# Altium integrated library micro-intel.IntLib: 81 symbols (part 2 of 2)
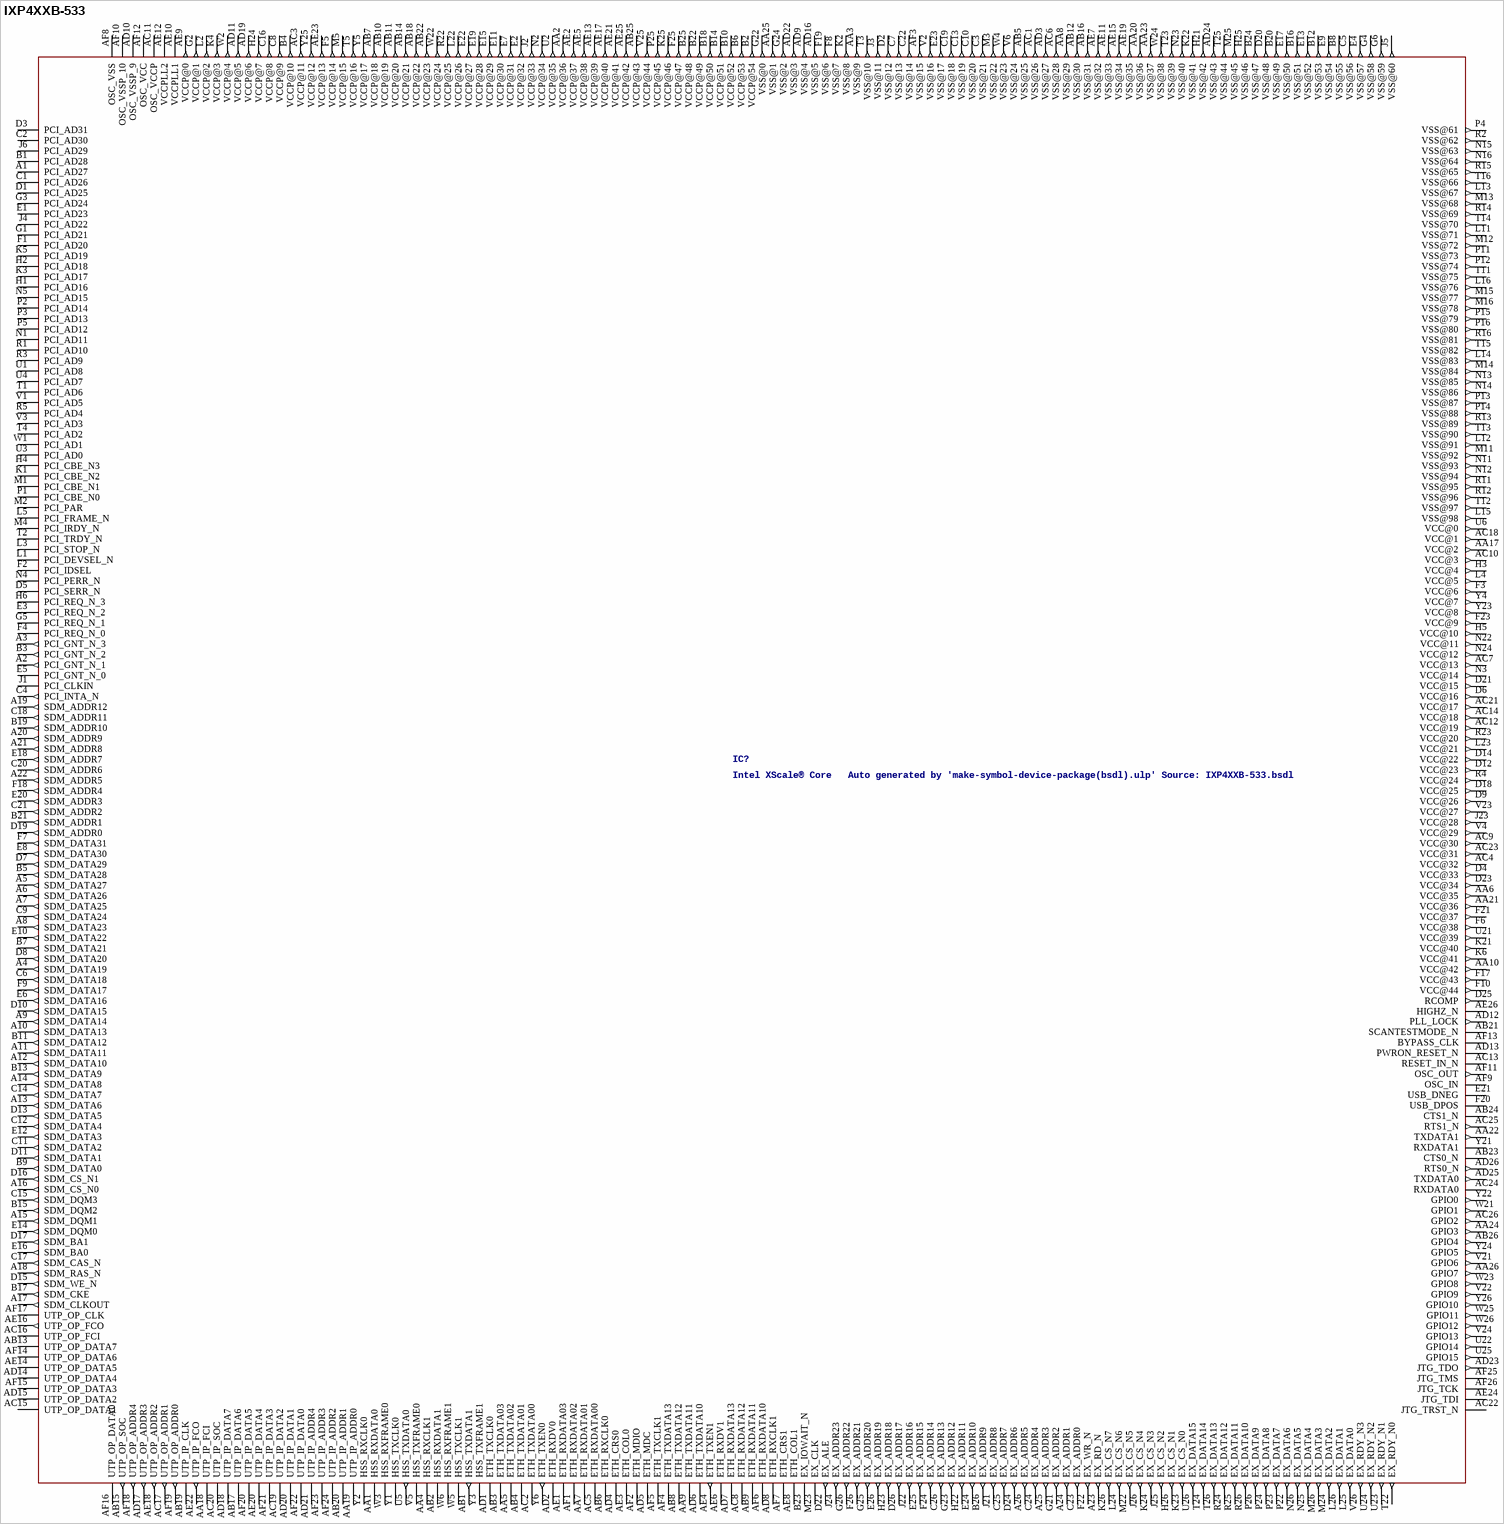
[diagram p14: symbol IXP4XXB-533]

## IXP4XXB-533
designator IC?, comment Intel XScale® Core   Auto generated by 'make-symbol-device-package(bsdl).ulp' Source: IXP4XXB-533.bsdl
OC_FARNELL: unknown; OC_NEWARK: unknown
footprint PBGA492
pins: A1 PCI_AD27, A2 PCI_GNT_N_1 (out), A3 PCI_GNT_N_3 (out), A4 SDM_DATA19 (out), A5 SDM_DATA27 (out), A6 SDM_DATA26 (out), A7 SDM_DATA25 (out), A8 SDM_DATA23 (out), A9 SDM_DATA14 (out), A10 SDM_DATA13 (out), A11 SDM_DATA11 (out), A12 SDM_DATA10 (out), A13 SDM_DATA6 (out), A14 SDM_DATA8 (out), A15 SDM_DQM1 (out), A16 SDM_CS_N0 (out), A17 SDM_CLKOUT (out), A18 SDM_RAS_N (out), A19 SDM_ADDR12 (out), A20 SDM_ADDR9 (out), A21 SDM_ADDR8 (out), A22 SDM_ADDR5 (out), A23 EX_RD_N (out), A24 EX_ADDR1 (out), A25 EX_ADDR3 (out), A26 EX_ADDR5 (out), AA1 HSS_RXDATA0, AA2 VCCP@36 (out), AA3 VSS@9 (out), AA4 HSS_RXCLK1, AA5 ETH_TXDATA02, AA6 VCC@35 (out), AA7 ETH_RXDATA01, AA8 VSS@29 (out), AA9 ETH_TXDATA11, AA10 VCC@42 (out), AA17 VCC@2 (out), AA18 UTP_IP_FCI, AA19 UTP_IP_ADDR0, AA20 VSS@36 (out), AA21 VCC@36 (out), AA22 TXDATA1 (out), AA23 VSS@37 (out), AA24 GPIO3 (out), AA25 VSS@1 (out), AA26 GPIO7 (out), AB1 HSS_TXDATA1 (out), AB2 HSS_RXDATA1, AB3 ETH_TXDATA03, AB4 ETH_TXDATA01, AB5 VSS@25 (out), AB6 ETH_RXCLK0, AB7 VCCP@18 (out), AB8 ETH_TXDATA12, AB9 ETH_RXDATA11, AB10 VCCP@19 (out), AB11 VCCP@20 (out), AB12 VSS@30 (out), AB13 UTP_OP_DATA7, AB14 VCCP@21 (out), AB15 UTP_OP_SOC (out), AB16 VSS@31 (out), AB17 UTP_IP_DATA6, AB18 VCCP@22 (out), AB19 UTP_IP_CLK, AB20 UTP_IP_ADDR1, AB21 SCANTESTMODE_N, AB22 VCCP@23 (out), AB23 CTS0_N, AB24 CTS1_N, AB25 VCCP@43 (out), AB26 GPIO4 (out), AC1 VSS@26 (out), AC2 ETH_TXDATA00, AC3 VCCP@11 (out), AC4 VCC@32 (out), AC5 ETH_RXDATA00, AC6 VSS@28 (out), AC7 VCC@13 (out), AC8 ETH_RXDATA12, AC9 VCC@30 (out), AC10 VCC@3 (out), AC11 OSC_VCCP (power), AC12 VCC@19 (out), AC13 RESET_IN_N, AC14 VCC@18 (out), AC15 UTP_OP_DATA1, AC16 UTP_OP_FCI, AC17 UTP_OP_ADDR1 (out), AC18 VCC@1 (out), AC19 UTP_IP_DATA2, AC20 UTP_IP_SOC, AC21 VCC@17 (out), AC22 JTG_TRST_N, AC23 VCC@31 (out), AC24 RXDATA0, AC25 RTS1_N (out), AC26 GPIO2 (out), AD1 ETH_TXCLK0, AD2 ETH_RXDV0, AD3 VSS@27 (out), AD4 ETH_CRS0, AD5 ETH_MDC, AD6 ETH_TXDATA10, AD7 ETH_RXDATA13, AD8 ETH_RXCLK1, AD9 VSS@4 (out), AD10 OSC_VSSP_9 (power), AD11 VCCP@5 (out), AD12 PLL_LOCK (out), AD13 PWRON_RESET_N, AD14 UTP_OP_DATA4, AD15 UTP_OP_DATA2, AD16 VSS@5 (out), AD17 UTP_OP_ADDR3 (out), AD18 UTP_IP_DATA7, AD19 VCCP@6 (out), AD20 UTP_IP_DATA1, AD21 UTP_IP_ADDR4, AD22 VSS@3 (out), AD23 JTG_TDO (out), AD24 VSS@43 (out), AD25 TXDATA0 (out), AD26 RTS0_N (out), AE1 ETH_RXDATA03, AE2 VCCP@37 (out), AE3 ETH_COL0, AE4 ETH_TXEN1 (out), AE5 VCCP@38 (out), AE6 ETH_RXDV1, AE7 VSS@32 (out), AE8 ETH_COL1, AE9 VCCP@0 (out), AE10 VCCPLL1 (power), AE11 VSS@33 (out), AE12 VCCPLL2 (power), AE13 VCCP@39 (out), AE14 UTP_OP_DATA5, AE15 VSS@34 (out), AE16 UTP_OP_FCO (out), AE17 VCCP@40 (out), AE18 UTP_OP_ADDR2 (out), AE19 VSS@35 (out), AE20 UTP_IP_DATA4, AE21 VCCP@41 (out), AE22 UTP_IP_FCO (out), AE23 VCCP@13 (out), AE24 JTG_TDI, AE25 VCCP@42 (out), AE26 HIGHZ_N, AF1 ETH_RXDATA02, AF2 ETH_MDIO, AF3 VSS@15 (out), AF4 ETH_TXDATA13, AF5 ETH_TXCLK1, AF6 ETH_RXDATA10, AF7 ETH_CRS1, AF8 OSC_VSS (power), AF9 OSC_IN, AF10 OSC_VSSP_10 (power), AF11 OSC_OUT (out), AF12 OSC_VCC (power), AF13 BYPASS_CLK, AF14 UTP_OP_DATA6, AF15 UTP_OP_DATA3, AF16 UTP_OP_DATA0, AF17 UTP_OP_CLK, AF18 UTP_OP_ADDR4 (out), AF19 UTP_OP_ADDR0 (out), AF20 UTP_IP_DATA5, AF21 UTP_IP_DATA3, AF22 UTP_IP_DATA0, AF23 UTP_IP_ADDR3, AF24 UTP_IP_ADDR2, AF25 JTG_TMS, AF26 JTG_TCK, B1 PCI_AD28, B2 VCCP@54 (out), B3 PCI_GNT_N_2 (out), B4 VCCP@10 (out), B5 SDM_DATA28 (out), B6 VCCP@53 (out), B7 SDM_DATA21 (out), B8 VSS@55 (out), B9 SDM_DATA0 (out), B10 VCCP@52 (out), B11 SDM_DATA12 (out), B12 VSS@53 (out), B13 SDM_DATA9 (out), B14 VCCP@51 (out), B15 SDM_DQM2 (out), B16 VSS@51 (out), B17 SDM_CKE (out), B18 VCCP@50 (out), B19 SDM_ADDR10 (out), B20 VSS@49 (out), B21 SDM_ADDR1 (out), B22 VCCP@49 (out), B23 EX_IOWAIT_N, B24 VSS@47 (out), B25 VCCP@48 (out), B26 EX_ADDR9 (out), C1 PCI_AD26, C2 PCI_AD30, C3 VSS@21 (out), C4 PCI_INTA_N (out), C5 VSS@56 (out), C6 SDM_DATA18 (out), C7 VSS@13 (out), C8 VCCP@9 (out), C9 SDM_DATA24 (out), C10 VSS@20 (out), C11 SDM_DATA2 (out), C12 SDM_DATA4 (out), C13 VSS@19 (out), C14 SDM_DATA7 (out), C15 SDM_DQM3 (out), C16 VCCP@8 (out), C17 SDM_CAS_N (out), C18 SDM_ADDR11 (out), C19 VSS@18 (out), C20 SDM_ADDR6 (out), C21 SDM_ADDR2 (out), C22 VSS@14 (out), C23 EX_ADDR0 (out), C24 EX_ADDR4 (out), C25 EX_ADDR7 (out), C26 EX_ADDR13 (out), D1 PCI_AD25, D2 VSS@12 (out), D3 PCI_AD31, D4 VCC@33 (out), D5 PCI_SERR_N, D6 VCC@16 (out), D7 SDM_DATA29 (out), D8 SDM_DATA20 (out), D9 VCC@26 (out), D10 SDM_DATA15 (out), D11 SDM_DATA1 (out), D12 VCC@23 (out), D13 SDM_DATA5 (out), D14 VCC@22 (out), D15 SDM_WE_N (out), D16 SDM_CS_N1 (out), D17 SDM_BA1 (out), D18 VCC@25 (out), D19 SDM_ADDR0 (out), D20 VSS@48 (out), D21 VCC@15 (out), D22 EX_ALE (out), D23 VCC@34 (out), D24 EX_ADDR6 (out), D25 RCOMP (out), D26 EX_ADDR17 (out), E1 PCI_AD23, E2 VCCP@32 (out), E3 PCI_REQ_N_2, E4 VSS@57 (out), E5 PCI_GNT_N_0, E6 SDM_DATA16 (out), E7 VCCP@31 (out), E8 SDM_DATA30 (out), E9 VSS@54 (out), E10 SDM_DATA22 (out), E11 VCCP@30 (out), E12 SDM_DATA3 (out), E13 VSS@52 (out), E14 SDM_DQM0 (out), E15 VCCP@29 (out), E16 SDM_BA0 (out), E17 VSS@50 (out), E18 SDM_ADDR7 (out), E19 VCCP@28 (out), E20 SDM_ADDR3 (out), E21 USB_DNEG, E22 VCCP@27 (out), E23 VSS@17 (out), E24 EX_ADDR10 (out), E25 EX_ADDR15 (out), E26 EX_ADDR19 (out), F1 PCI_AD20, F2 PCI_IDSEL, F3 VCC@6 (out), F4 PCI_REQ_N_0, F5 VCCP@14 (out), F6 VCC@38 (out), F7 SDM_DATA31 (out), F8 VSS@7 (out), F9 SDM_DATA17 (out), F10 VCC@44 (out), F17 VCC@43 (out), F18 SDM_ADDR4 (out), F19 VSS@6 (out), F20 USB_DPOS, F21 VCC@37 (out), F22 EX_WR_N (out), F23 VCC@9 (out), F24 EX_ADDR14 (out), F25 VCCP@47 (out), F26 EX_ADDR21 (out), G1 PCI_AD21, G2 VCCP@1 (out), G3 PCI_AD24, G4 VSS@58 (out), G5 PCI_REQ_N_1, G6 VSS@59 (out), G21 EX_ADDR2 (out), G22 VSS@0 (out), G23 EX_ADDR12 (out), G24 VSS@2 (out), G25 EX_ADDR20 (out), G26 EX_ADDR22 (out), H1 PCI_AD16, H2 PCI_AD18, H3 VCC@4 (out), H4 PCI_CBE_N3, H5 VCC@10 (out), H6 PCI_REQ_N_3, H21 VSS@42 (out), H22 EX_ADDR11 (out), H23 EX_ADDR18 (out), H24 VCCP@7 (out), H25 VSS@46 (out), H26 EX_CS_N1 (out), J1 PCI_CLKIN, J2 VCCP@33 (out), J3 VSS@11 (out), J4 PCI_AD22, J5 VSS@60 (out), J6 PCI_AD29, J21 EX_ADDR8 (out), J22 EX_ADDR16 (out), J23 VCC@28 (out), J24 EX_ADDR23 (out), J25 EX_CS_N2 (out), J26 EX_CS_N4 (out), K1 PCI_CBE_N2, K2 VSS@8 (out), K3 PCI_AD17, K4 VCCP@3 (out), K5 PCI_AD19, K6 VCC@41 (out), K21 VCC@40 (out), K22 VSS@41 (out), K23 EX_CS_N0 (out), K24 EX_CS_N3 (out), K25 VCCP@46 (out), K26 EX_CS_N7 (out), L1 PCI_DEVSEL_N, L2 VCCP@2 (out), L3 PCI_STOP_N, L4 VCC@5 (out), L5 PCI_FRAME_N, L11 VSS@71 (out), L12 VSS@91 (out), L13 VSS@67 (out), L14 VSS@83 (out), L15 VSS@98 (out), L16 VSS@76 (out), L22 VCCP@26 (out), L23 VCC@21 (out), L24 EX_CS_N6 (out), L25 EX_DATA0 (out), L26 EX_DATA1 (out), M1 PCI_CBE_N1, M2 PCI_PAR, M3 VSS@22 (out), M4 PCI_IRDY_N, M5 VCCP@15 (out), M11 VSS@92 (out), M12 VSS@72 (out), M13 VSS@68 (out), M14 VSS@84 (out), M15 VSS@77 (out), M16 VSS@78 (out), M22 EX_CS_N5 (out), M23 EX_CLK, M24 EX_DATA2 (out), M25 VSS@45 (out), M26 EX_DATA3 (out), N1 PCI_AD11, N2 VCCP@34 (out), N3 VCC@14 (out), N4 PCI_PERR_N, N5 PCI_AD15, N11 VSS@93 (out), N12 VSS@94 (out), N13 VSS@85 (out), N14 VSS@86 (out), N15 VSS@63 (out), N16 VSS@64 (out), N22 VCC@11 (out), N23 VSS@40 (out), N24 VCC@12 (out), N25 EX_DATA4 (out), N26 EX_DATA5 (out), P1 PCI_CBE_N0, P2 PCI_AD14, P3 PCI_AD13, P4 VSS@61 (out), P5 PCI_AD12, P11 VSS@73 (out), P12 VSS@74 (out), P13 VSS@87 (out), P14 VSS@88 (out), P15 VSS@79 (out), P16 VSS@80 (out), P22 EX_DATA6 (out), P23 EX_DATA7 (out), P24 EX_DATA8 (out), P25 VCCP@45 (out), P26 EX_DATA9 (out), R1 PCI_AD10, R2 VSS@62 (out), R3 PCI_AD9, R4 VCC@24 (out), R5 PCI_AD4, R11 VSS@95 (out), R12 VSS@96 (out), R13 VSS@89 (out), R14 VSS@69 (out), R15 VSS@65 (out), R16 VSS@81 (out), R22 VCCP@25 (out), R23 VCC@20 (out), R24 EX_DATA12 (out), R25 EX_DATA11 (out), R26 EX_DATA10 (out), T1 PCI_AD6, T2 PCI_TRDY_N, T3 VSS@10 (out), T4 PCI_AD2, T5 VCCP@16 (out), T11 VSS@75 (out), T12 VSS@97 (out), T13 VSS@90 (out), T14 VSS@70 (out), T15 VSS@82 (out), T16 VSS@66 (out), T22 EX_RDY_N0 (out), T23 VSS@39 (out), T24 EX_DATA14 (out), T25 VSS@44 (out), T26 EX_DATA13 (out), U1 PCI_AD8, U2 VCCP@35 (out), U3 PCI_AD0, U4 PCI_AD7, U5 HSS_TXDATA0 (out), U6 VCC@0 (out), U21 VCC@39 (out), U22 GPIO14 (out), U23 EX_RDY_N1 (out), U24 EX_RDY_N2 (out), U25 GPIO15 (out), U26 EX_DATA15 (out), V1 PCI_AD5, V2 VSS@16 (out), V3 PCI_AD3, V4 VCC@29 (out), V5 HSS_TXFRAME0, V6 VSS@24 (out), V21 GPIO6 (out), V22 GPIO9 (out), V23 VCC@27 (out), V24 GPIO13 (out), V25 VCCP@44 (out), V26 EX_RDY_N3 (out), W1 PCI_AD1, W2 VCCP@4 (out), W3 HSS_RXFRAME0, W4 VSS@23 (out), W5 HSS_TXCLK1, W6 HSS_RXFRAME1, W21 GPIO1 (out), W22 VCCP@24 (out), W23 GPIO8 (out), W24 VSS@38 (out), W25 GPIO11 (out), W26 GPIO12 (out), Y1 HSS_TXCLK0, Y2 HSS_RXCLK0, Y3 HSS_TXFRAME1, Y4 VCC@7 (out), Y5 VCCP@17 (out), Y6 ETH_TXEN0 (out), Y21 RXDATA1, Y22 GPIO0 (out), Y23 VCC@8 (out), Y24 GPIO5 (out), Y25 VCCP@12 (out), Y26 GPIO10 (out)

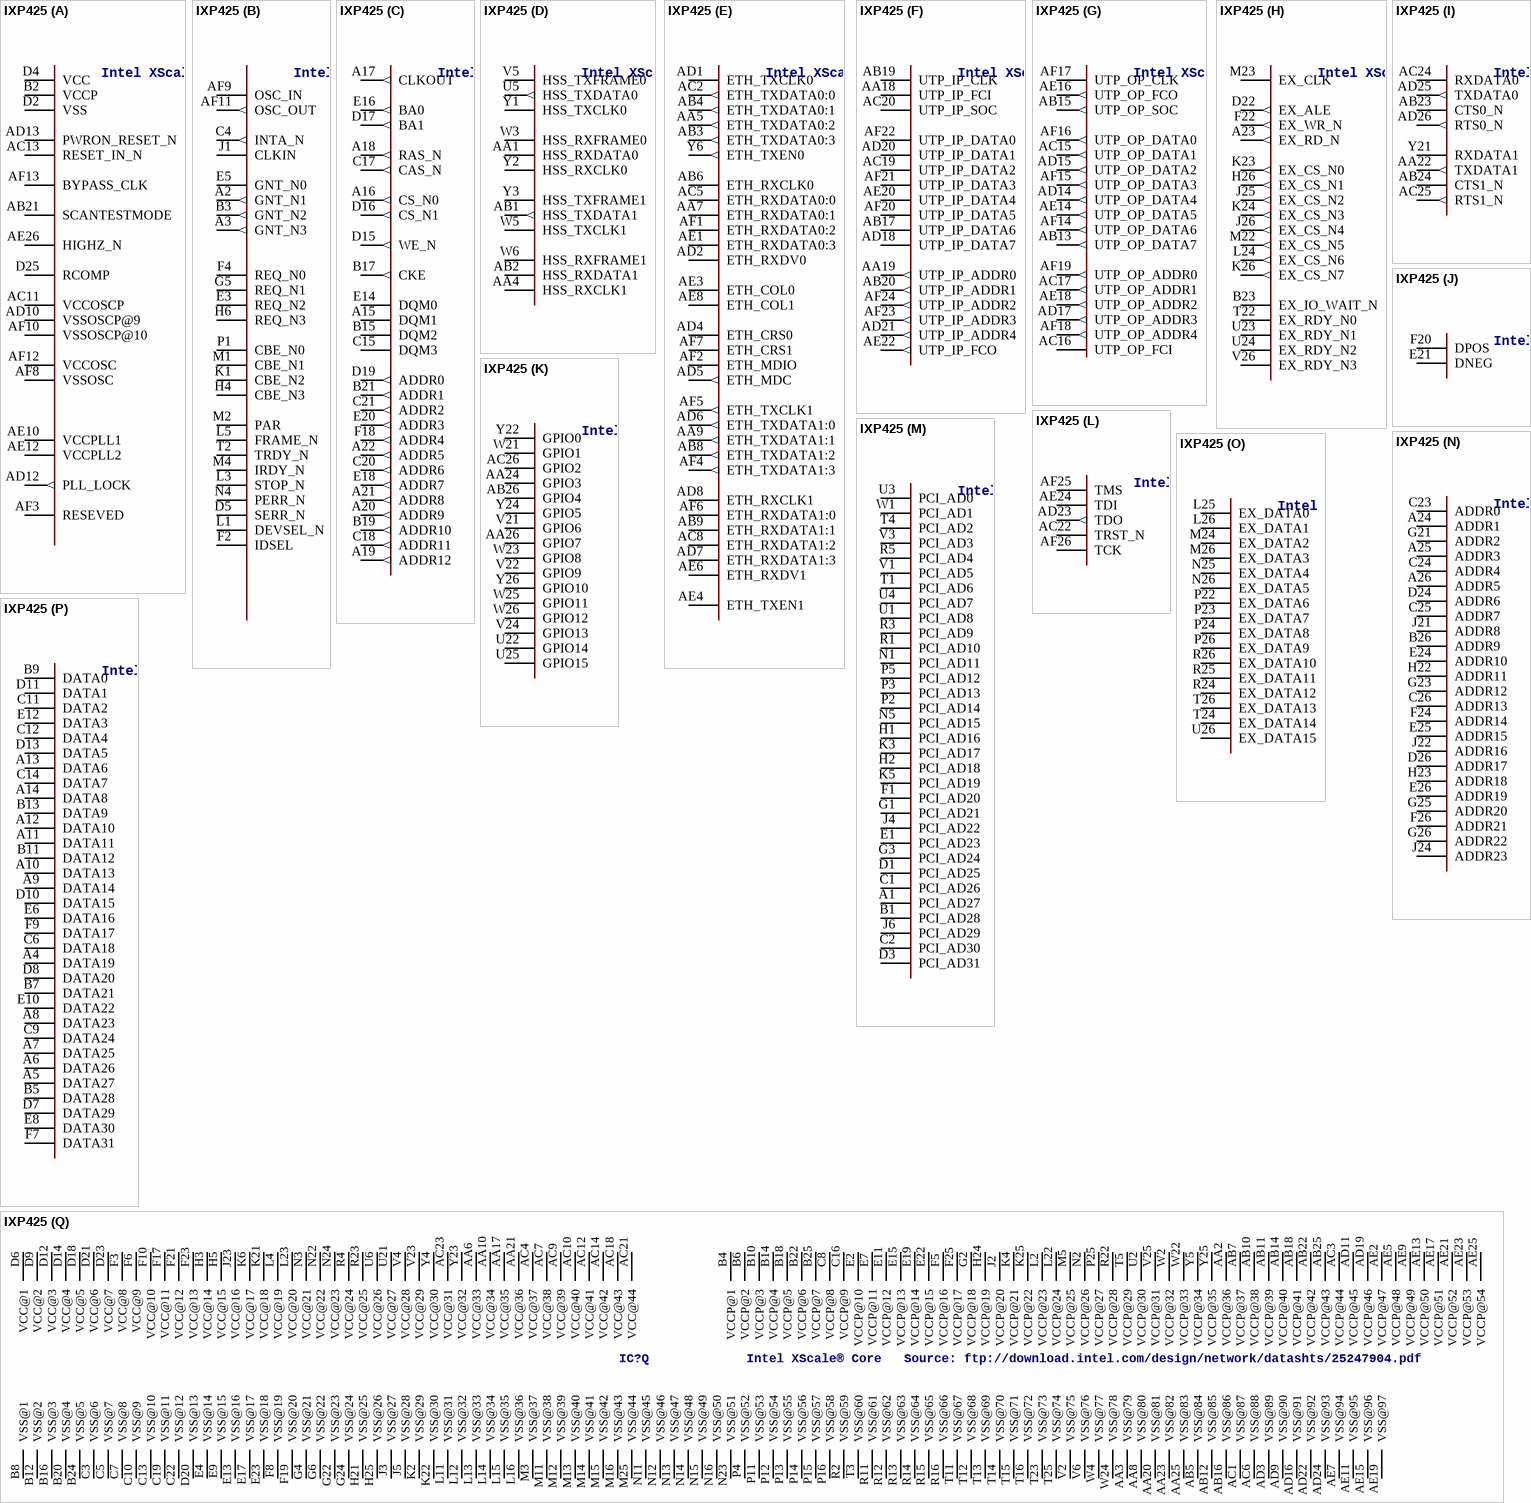
[diagram p12: symbol IXP425]

## IXP425
designator IC?, comment Intel XScale® Core   Source: ftp://download.intel.com/design/network/datashts/25247904.pdf
OC_FARNELL: unknown; OC_NEWARK: unknown
footprint PBGA492
part A pins: AB21 SCANTESTMODE, AC11 VCCOSCP (power), AC13 RESET_IN_N, AD10 VSSOSCP@9 (power), AD12 PLL_LOCK (out), AD13 PWRON_RESET_N, AE10 VCCPLL1 (power), AE12 VCCPLL2 (power), AE26 HIGHZ_N, AF3 RESEVED, AF8 VSSOSC (power), AF10 VSSOSCP@10 (power), AF12 VCCOSC (power), AF13 BYPASS_CLK, B2 VCCP (power), D2 VSS (power), D4 VCC (power), D25 RCOMP
part B pins: A2 GNT_N1 (out), A3 GNT_N3 (out), AF9 OSC_IN, AF11 OSC_OUT (out), B3 GNT_N2 (out), C4 INTA_N (out), D5 SERR_N, E3 REQ_N2, E5 GNT_N0, F2 IDSEL, F4 REQ_N0, G5 REQ_N1, H4 CBE_N3, H6 REQ_N3, J1 CLKIN, K1 CBE_N2, L1 DEVSEL_N, L3 STOP_N, L5 FRAME_N, M1 CBE_N1, M2 PAR, M4 IRDY_N, N4 PERR_N, P1 CBE_N0, T2 TRDY_N
part C pins: A15 DQM1, A16 CS_N0 (out), A17 CLKOUT (out), A18 RAS_N (out), A19 ADDR12 (out), A20 ADDR9 (out), A21 ADDR8 (out), A22 ADDR5 (out), B15 DQM2, B17 CKE (out), B19 ADDR10 (out), B21 ADDR1 (out), C15 DQM3, C17 CAS_N (out), C18 ADDR11 (out), C20 ADDR6 (out), C21 ADDR2 (out), D15 WE_N (out), D16 CS_N1 (out), D17 BA1 (out), D19 ADDR0 (out), E14 DQM0, E16 BA0 (out), E18 ADDR7 (out), E20 ADDR3 (out), F18 ADDR4 (out)
part D pins: AA1 HSS_RXDATA0, AA4 HSS_RXCLK1, AB1 HSS_TXDATA1 (out), AB2 HSS_RXDATA1, U5 HSS_TXDATA0 (out), V5 HSS_TXFRAME0, W3 HSS_RXFRAME0, W5 HSS_TXCLK1, W6 HSS_RXFRAME1, Y1 HSS_TXCLK0, Y2 HSS_RXCLK0, Y3 HSS_TXFRAME1
part E pins: AA5 ETH_TXDATA0:2 (out), AA7 ETH_RXDATA0:1, AA9 ETH_TXDATA1:1 (out), AB3 ETH_TXDATA0:3 (out), AB4 ETH_TXDATA0:1 (out), AB6 ETH_RXCLK0, AB8 ETH_TXDATA1:2 (out), AB9 ETH_RXDATA1:1, AC2 ETH_TXDATA0:0 (out), AC5 ETH_RXDATA0:0, AC8 ETH_RXDATA1:2, AD1 ETH_TXCLK0, AD2 ETH_RXDV0, AD4 ETH_CRS0, AD5 ETH_MDC (out), AD6 ETH_TXDATA1:0 (out), AD7 ETH_RXDATA1:3, AD8 ETH_RXCLK1, AE1 ETH_RXDATA0:3, AE3 ETH_COL0, AE4 ETH_TXEN1, AE6 ETH_RXDV1, AE8 ETH_COL1, AF1 ETH_RXDATA0:2, AF2 ETH_MDIO, AF4 ETH_TXDATA1:3 (out), AF5 ETH_TXCLK1 (out), AF6 ETH_RXDATA1:0, AF7 ETH_CRS1, Y6 ETH_TXEN0 (out)
part F pins: AA18 UTP_IP_FCI, AA19 UTP_IP_ADDR0 (out), AB17 UTP_IP_DATA6, AB19 UTP_IP_CLK, AB20 UTP_IP_ADDR1 (out), AC19 UTP_IP_DATA2, AC20 UTP_IP_SOC, AD18 UTP_IP_DATA7, AD20 UTP_IP_DATA1, AD21 UTP_IP_ADDR4 (out), AE20 UTP_IP_DATA4, AE22 UTP_IP_FCO (out), AF20 UTP_IP_DATA5, AF21 UTP_IP_DATA3, AF22 UTP_IP_DATA0, AF23 UTP_IP_ADDR3 (out), AF24 UTP_IP_ADDR2 (out)
part G pins: AB13 UTP_OP_DATA7 (out), AB15 UTP_OP_SOC (out), AC15 UTP_OP_DATA1 (out), AC16 UTP_OP_FCI, AC17 UTP_OP_ADDR1 (out), AD14 UTP_OP_DATA4 (out), AD15 UTP_OP_DATA2 (out), AD17 UTP_OP_ADDR3 (out), AE14 UTP_OP_DATA5 (out), AE16 UTP_OP_FCO (out), AE18 UTP_OP_ADDR2 (out), AF14 UTP_OP_DATA6 (out), AF15 UTP_OP_DATA3 (out), AF16 UTP_OP_DATA0 (out), AF17 UTP_OP_CLK, AF18 UTP_OP_ADDR4 (out), AF19 UTP_OP_ADDR0 (out)
part H pins: A23 EX_RD_N (out), B23 EX_IO_WAIT_N, D22 EX_ALE (out), F22 EX_WR_N (out), H26 EX_CS_N1 (out), J25 EX_CS_N2 (out), J26 EX_CS_N4 (out), K23 EX_CS_N0 (out), K24 EX_CS_N3 (out), K26 EX_CS_N7 (out), L24 EX_CS_N6 (out), M22 EX_CS_N5 (out), M23 EX_CLK, T22 EX_RDY_N0, U23 EX_RDY_N1, U24 EX_RDY_N2, V26 EX_RDY_N3
part I pins: AA22 TXDATA1 (out), AB23 CTS0_N, AB24 CTS1_N, AC24 RXDATA0, AC25 RTS1_N (out), AD25 TXDATA0 (out), AD26 RTS0_N (out), Y21 RXDATA1
part J pins: E21 DNEG, F20 DPOS
part K pins: AA24 GPIO3, AA26 GPIO7, AB26 GPIO4, AC26 GPIO2, U22 GPIO14, U25 GPIO15, V21 GPIO6, V22 GPIO9, V24 GPIO13, W21 GPIO1, W23 GPIO8, W25 GPIO11, W26 GPIO12, Y22 GPIO0, Y24 GPIO5, Y26 GPIO10
part L pins: AC22 TRST_N, AD23 TDO (out), AE24 TDI, AF25 TMS, AF26 TCK
part M pins: A1 PCI_AD27, B1 PCI_AD28, C1 PCI_AD26, C2 PCI_AD30, D1 PCI_AD25, D3 PCI_AD31, E1 PCI_AD23, F1 PCI_AD20, G1 PCI_AD21, G3 PCI_AD24, H1 PCI_AD16, H2 PCI_AD18, J4 PCI_AD22, J6 PCI_AD29, K3 PCI_AD17, K5 PCI_AD19, N1 PCI_AD11, N5 PCI_AD15, P2 PCI_AD14, P3 PCI_AD13, P5 PCI_AD12, R1 PCI_AD10, R3 PCI_AD9, R5 PCI_AD4, T1 PCI_AD6, T4 PCI_AD2, U1 PCI_AD8, U3 PCI_AD0, U4 PCI_AD7, V1 PCI_AD5, V3 PCI_AD3, W1 PCI_AD1
part N pins: A24 ADDR1, A25 ADDR3, A26 ADDR5, B26 ADDR9, C23 ADDR0, C24 ADDR4, C25 ADDR7, C26 ADDR13, D24 ADDR6, D26 ADDR17, E24 ADDR10, E25 ADDR15, E26 ADDR19, F24 ADDR14, F26 ADDR21, G21 ADDR2, G23 ADDR12, G25 ADDR20, G26 ADDR22, H22 ADDR11, H23 ADDR18, J21 ADDR8, J22 ADDR16, J24 ADDR23
part O pins: L25 EX_DATA0, L26 EX_DATA1, M24 EX_DATA2, M26 EX_DATA3, N25 EX_DATA4, N26 EX_DATA5, P22 EX_DATA6, P23 EX_DATA7, P24 EX_DATA8, P26 EX_DATA9, R24 EX_DATA12, R25 EX_DATA11, R26 EX_DATA10, T24 EX_DATA14, T26 EX_DATA13, U26 EX_DATA15
part P pins: A4 DATA19, A5 DATA27, A6 DATA26, A7 DATA25, A8 DATA23, A9 DATA14, A10 DATA13, A11 DATA11, A12 DATA10, A13 DATA6, A14 DATA8, B5 DATA28, B7 DATA21, B9 DATA0, B11 DATA12, B13 DATA9, C6 DATA18, C9 DATA24, C11 DATA2, C12 DATA4, C14 DATA7, D7 DATA29, D8 DATA20, D10 DATA15, D11 DATA1, D13 DATA5, E6 DATA16, E8 DATA30, E10 DATA22, E12 DATA3, F7 DATA31, F9 DATA17
part Q pins: AA2 VCCP@36 (power), AA3 VSS@79 (power), AA6 VCC@33 (power), AA8 VSS@80 (power), AA10 VCC@34 (power), AA17 VCC@35 (power), AA20 VSS@81 (power), AA21 VCC@36 (power), AA23 VSS@82 (power), AA25 VSS@83 (power), AB5 VSS@84 (power), AB7 VCCP@37 (power), AB10 VCCP@38 (power), AB11 VCCP@39 (power), AB12 VSS@85 (power), AB14 VCCP@40 (power), AB16 VSS@86 (power), AB18 VCCP@41 (power), AB22 VCCP@42 (power), AB25 VCCP@43 (power), AC1 VSS@87 (power), AC3 VCCP@44 (power), AC4 VCC@37 (power), AC6 VSS@88 (power), AC7 VCC@38 (power), AC9 VCC@39 (power), AC10 VCC@40 (power), AC12 VCC@41 (power), AC14 VCC@42 (power), AC18 VCC@43 (power), AC21 VCC@44 (power), AC23 VCC@31 (power), AD3 VSS@89 (power), AD9 VSS@90 (power), AD11 VCCP@45 (power), AD16 VSS@91 (power), AD19 VCCP@46 (power), AD22 VSS@92 (power), AD24 VSS@93 (power), AE2 VCCP@47 (power), AE5 VCCP@48 (power), AE7 VSS@94 (power), AE9 VCCP@49 (power), AE11 VSS@95 (power), AE13 VCCP@50 (power), AE15 VSS@96 (power), AE17 VCCP@51 (power), AE19 VSS@97 (power), AE21 VCCP@52 (power), AE23 VCCP@53 (power), AE25 VCCP@54 (power), B4 VCCP@1 (power), B6 VCCP@2 (power), B8 VSS@1 (power), B10 VCCP@3 (power), B12 VSS@2 (power), B14 VCCP@4 (power), B16 VSS@3 (power), B18 VCCP@5 (power), B20 VSS@4 (power), B22 VCCP@6 (power), B24 VSS@5 (power), B25 VCCP@7 (power), C3 VSS@6 (power), C5 VSS@7 (power), C7 VSS@8 (power), C8 VCCP@8 (power), C10 VSS@9 (power), C13 VSS@10 (power), C16 VCCP@9 (power), C19 VSS@11 (power), C22 VSS@12 (power), D6 VCC@1 (power), D9 VCC@2 (power), D12 VCC@3 (power), D14 VCC@4 (power), D18 VCC@5 (power), D20 VSS@13 (power), D21 VCC@6 (power), D23 VCC@7 (power), E2 VCCP@10 (power), E4 VSS@14 (power), E7 VCCP@11 (power), E9 VSS@15 (power), E11 VCCP@12 (power), E13 VSS@16 (power), E15 VCCP@13 (power), E17 VSS@17 (power), E19 VCCP@14 (power), E22 VCCP@15 (power), E23 VSS@18 (power), F3 VCC@8 (power), F5 VCCP@16 (power), F6 VCC@9 (power), F8 VSS@19 (power), F10 VCC@10 (power), F17 VCC@11 (power), F19 VSS@20 (power), F21 VCC@12 (power), F23 VCC@13 (power), F25 VCCP@17 (power), G2 VCCP@18 (power), G4 VSS@21 (power), G6 VSS@22 (power), G22 VSS@23 (power), G24 VSS@24 (power), H3 VCC@14 (power), H5 VCC@15 (power), H21 VSS@25 (power), H24 VCCP@19 (power), H25 VSS@26 (power), J2 VCCP@20 (power), J3 VSS@27 (power), J5 VSS@28 (power), J23 VCC@16 (power), K2 VSS@29 (power), K4 VCCP@21 (power), K6 VCC@17 (power), K21 VCC@18 (power), K22 VSS@30 (power), K25 VCCP@22 (power), L2 VCCP@23 (power), L4 VCC@19 (power), L11 VSS@31 (power), L12 VSS@32 (power), L13 VSS@33 (power), L14 VSS@34 (power), L15 VSS@35 (power), L16 VSS@36 (power), L22 VCCP@24 (power), L23 VCC@20 (power), M3 VSS@37 (power), M5 VCCP@25 (power), M11 VSS@38 (power), M12 VSS@39 (power), M13 VSS@40 (power), M14 VSS@41 (power), M15 VSS@42 (power), M16 VSS@43 (power), M25 VSS@44 (power), N2 VCCP@26 (power), N3 VCC@21 (power), N11 VSS@45 (power), N12 VSS@46 (power), N13 VSS@47 (power), N14 VSS@48 (power), N15 VSS@49 (power), N16 VSS@50 (power), N22 VCC@22 (power), N23 VSS@51 (power), N24 VCC@23 (power), P4 VSS@52 (power), P11 VSS@53 (power), P12 VSS@54 (power), P13 VSS@55 (power), P14 VSS@56 (power), P15 VSS@57 (power), P16 VSS@58 (power), P25 VCCP@27 (power), R2 VSS@59 (power), R4 VCC@24 (power), R11 VSS@61 (power), R12 VSS@62 (power), R13 VSS@63 (power), R14 VSS@64 (power), R15 VSS@65 (power), R16 VSS@66 (power), R22 VCCP@28 (power), R23 VCC@25 (power), T3 VSS@60 (power), T5 VCCP@29 (power), T11 VSS@67 (power), T12 VSS@68 (power), T13 VSS@69 (power), T14 VSS@70 (power), T15 VSS@71 (power), T16 VSS@72 (power), T23 VSS@73 (power), T25 VSS@74 (power), U2 VCCP@30 (power), U6 VCC@26 (power), U21 VCC@27 (power), V2 VSS@75 (power), V4 VCC@28 (power), V6 VSS@76 (power), V23 VCC@29 (power), V25 VCCP@31 (power), W2 VCCP@32 (power), W4 VSS@77 (power), W22 VCCP@33 (power), W24 VSS@78 (power), Y4 VCC@30 (power), Y5 VCCP@34 (power), Y23 VCC@32 (power), Y25 VCCP@35 (power)

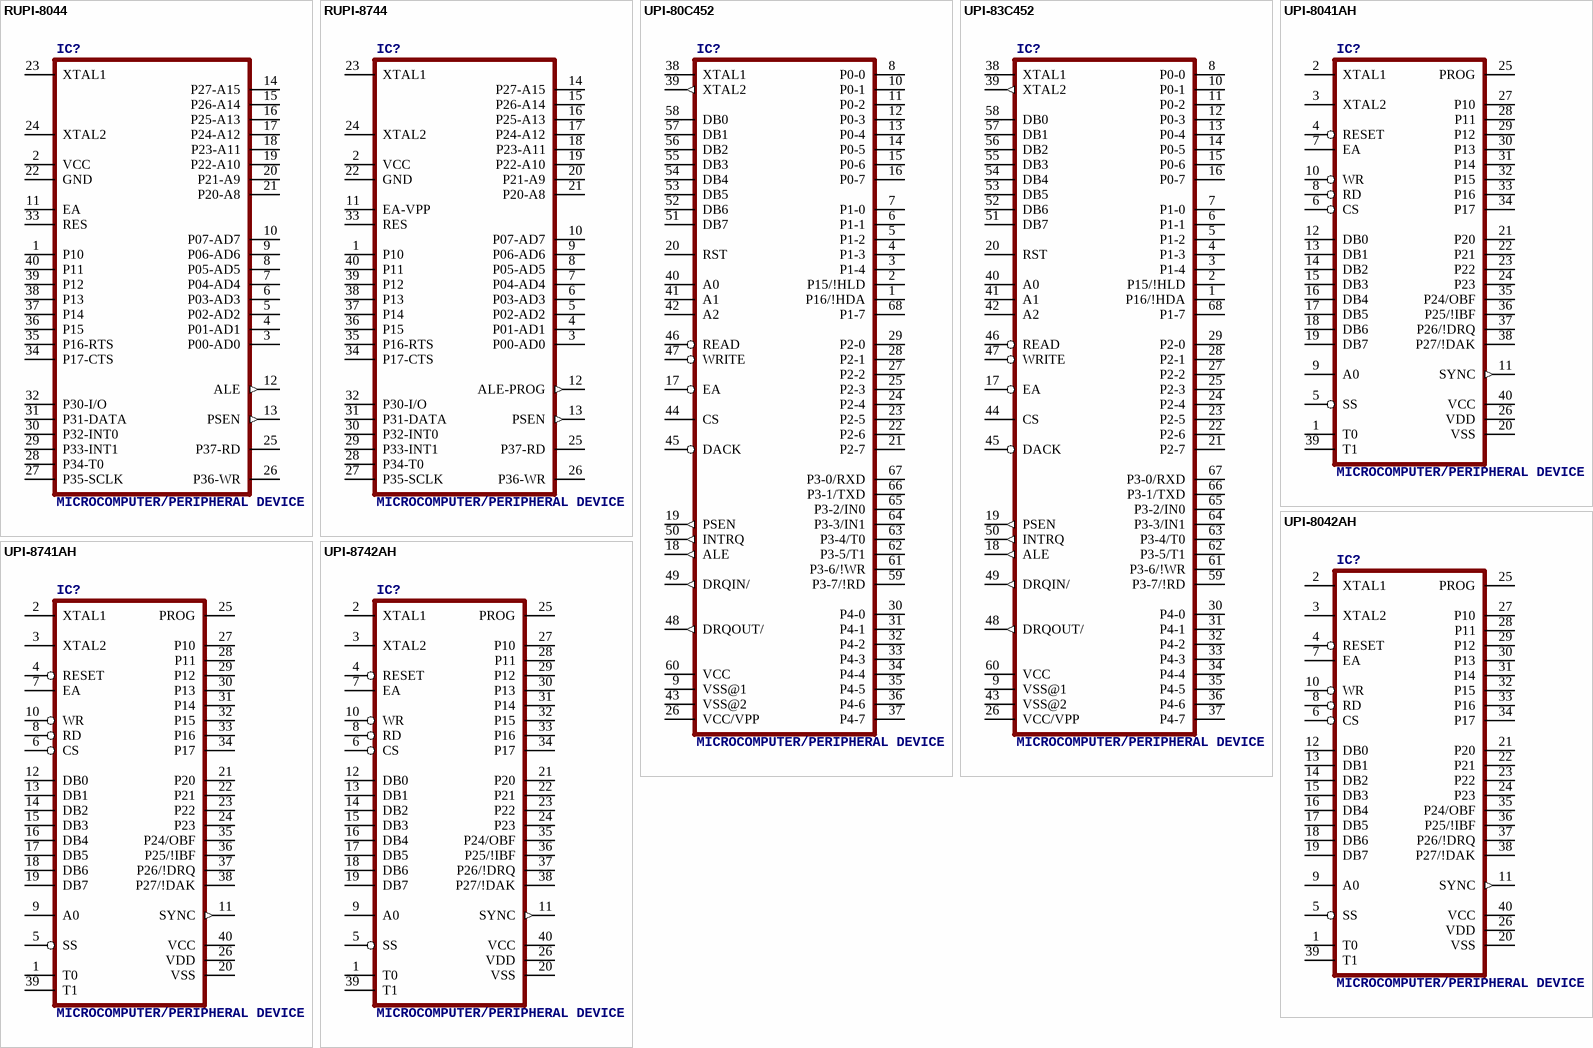
[diagram p13: symbols RUPI-8044 to UPI-8742AH]

## RUPI-8044
designator IC?, comment MICROCOMPUTER/PERIPHERAL DEVICE
OC_FARNELL: unknown; OC_NEWARK: unknown
footprint DIL40
pins: 1 P10, 2 VCC (power), 3 P00-AD0, 4 P01-AD1, 5 P02-AD2, 6 P03-AD3, 7 P04-AD4, 8 P05-AD5, 9 P06-AD6, 10 P07-AD7, 11 EA, 12 ALE (out), 13 PSEN (out), 14 P27-A15, 15 P26-A14, 16 P25-A13, 17 P24-A12, 18 P23-A11, 19 P22-A10, 20 P21-A9, 21 P20-A8, 22 GND (power), 23 XTAL1, 24 XTAL2, 25 P37-RD, 26 P36-WR, 27 P35-SCLK, 28 P34-T0, 29 P33-INT1, 30 P32-INT0, 31 P31-DATA, 32 P30-I/O, 33 RES, 34 P17-CTS, 35 P16-RTS, 36 P15, 37 P14, 38 P13, 39 P12, 40 P11

## RUPI-8744
designator IC?, comment MICROCOMPUTER/PERIPHERAL DEVICE
OC_FARNELL: unknown; OC_NEWARK: unknown
footprint DIL40
pins: 1 P10, 2 VCC (power), 3 P00-AD0, 4 P01-AD1, 5 P02-AD2, 6 P03-AD3, 7 P04-AD4, 8 P05-AD5, 9 P06-AD6, 10 P07-AD7, 11 EA-VPP, 12 ALE-PROG (out), 13 PSEN (out), 14 P27-A15, 15 P26-A14, 16 P25-A13, 17 P24-A12, 18 P23-A11, 19 P22-A10, 20 P21-A9, 21 P20-A8, 22 GND (power), 23 XTAL1, 24 XTAL2, 25 P37-RD, 26 P36-WR, 27 P35-SCLK, 28 P34-T0, 29 P33-INT1, 30 P32-INT0, 31 P31-DATA, 32 P30-I/O, 33 RES, 34 P17-CTS, 35 P16-RTS, 36 P15, 37 P14, 38 P13, 39 P12, 40 P11

## UPI-80C452
designator IC?, comment MICROCOMPUTER/PERIPHERAL DEVICE
OC_FARNELL: unknown; OC_NEWARK: unknown
footprint PGA68-N
pins: 1 P16/!HDA, 2 P15/!HLD, 3 P1-4, 4 P1-3, 5 P1-2, 6 P1-1, 7 P1-0, 8 P0-0, 9 VSS@1 (power), 10 P0-1, 11 P0-2, 12 P0-3, 13 P0-4, 14 P0-5, 15 P0-6, 16 P0-7, 17 EA, 18 ALE (out), 19 PSEN (out), 20 RST, 21 P2-7, 22 P2-6, 23 P2-5, 24 P2-4, 25 P2-3, 26 VCC/VPP (power), 27 P2-2, 28 P2-1, 29 P2-0, 30 P4-0, 31 P4-1, 32 P4-2, 33 P4-3, 34 P4-4, 35 P4-5, 36 P4-6, 37 P4-7, 38 XTAL1, 39 XTAL2 (out), 40 A0, 41 A1, 42 A2, 43 VSS@2 (power), 44 CS, 45 DACK, 46 READ, 47 WRITE, 48 DRQOUT/ (out), 49 DRQIN/ (out), 50 INTRQ (out), 51 DB7, 52 DB6, 53 DB5, 54 DB4, 55 DB3, 56 DB2, 57 DB1, 58 DB0, 59 P3-7/!RD, 60 VCC (power), 61 P3-6/!WR, 62 P3-5/T1, 63 P3-4/T0, 64 P3-3/IN1, 65 P3-2/IN0, 66 P3-1/TXD, 67 P3-0/RXD, 68 P1-7

## UPI-83C452
designator IC?, comment MICROCOMPUTER/PERIPHERAL DEVICE
OC_FARNELL: unknown; OC_NEWARK: unknown
footprint PGA68-N
pins: 1 P16/!HDA, 2 P15/!HLD, 3 P1-4, 4 P1-3, 5 P1-2, 6 P1-1, 7 P1-0, 8 P0-0, 9 VSS@1 (power), 10 P0-1, 11 P0-2, 12 P0-3, 13 P0-4, 14 P0-5, 15 P0-6, 16 P0-7, 17 EA, 18 ALE (out), 19 PSEN (out), 20 RST, 21 P2-7, 22 P2-6, 23 P2-5, 24 P2-4, 25 P2-3, 26 VCC/VPP (power), 27 P2-2, 28 P2-1, 29 P2-0, 30 P4-0, 31 P4-1, 32 P4-2, 33 P4-3, 34 P4-4, 35 P4-5, 36 P4-6, 37 P4-7, 38 XTAL1, 39 XTAL2 (out), 40 A0, 41 A1, 42 A2, 43 VSS@2 (power), 44 CS, 45 DACK, 46 READ, 47 WRITE, 48 DRQOUT/ (out), 49 DRQIN/ (out), 50 INTRQ (out), 51 DB7, 52 DB6, 53 DB5, 54 DB4, 55 DB3, 56 DB2, 57 DB1, 58 DB0, 59 P3-7/!RD, 60 VCC (power), 61 P3-6/!WR, 62 P3-5/T1, 63 P3-4/T0, 64 P3-3/IN1, 65 P3-2/IN0, 66 P3-1/TXD, 67 P3-0/RXD, 68 P1-7

## UPI-8041AH
designator IC?, comment MICROCOMPUTER/PERIPHERAL DEVICE
OC_FARNELL: unknown; OC_NEWARK: unknown
footprint DIL40
pins: 1 T0, 2 XTAL1, 3 XTAL2, 4 RESET, 5 SS, 6 CS, 7 EA, 8 RD, 9 A0, 10 WR, 11 SYNC (out), 12 DB0, 13 DB1, 14 DB2, 15 DB3, 16 DB4, 17 DB5, 18 DB6, 19 DB7, 20 VSS (power), 21 P20, 22 P21, 23 P22, 24 P23, 25 PROG, 26 VDD (power), 27 P10, 28 P11, 29 P12, 30 P13, 31 P14, 32 P15, 33 P16, 34 P17, 35 P24/OBF, 36 P25/!IBF, 37 P26/!DRQ, 38 P27/!DAK, 39 T1, 40 VCC (power)

## UPI-8042AH
designator IC?, comment MICROCOMPUTER/PERIPHERAL DEVICE
OC_FARNELL: unknown; OC_NEWARK: unknown
footprint DIL40
pins: 1 T0, 2 XTAL1, 3 XTAL2, 4 RESET, 5 SS, 6 CS, 7 EA, 8 RD, 9 A0, 10 WR, 11 SYNC (out), 12 DB0, 13 DB1, 14 DB2, 15 DB3, 16 DB4, 17 DB5, 18 DB6, 19 DB7, 20 VSS (power), 21 P20, 22 P21, 23 P22, 24 P23, 25 PROG, 26 VDD (power), 27 P10, 28 P11, 29 P12, 30 P13, 31 P14, 32 P15, 33 P16, 34 P17, 35 P24/OBF, 36 P25/!IBF, 37 P26/!DRQ, 38 P27/!DAK, 39 T1, 40 VCC (power)

## UPI-8741AH
designator IC?, comment MICROCOMPUTER/PERIPHERAL DEVICE
OC_FARNELL: unknown; OC_NEWARK: unknown
footprint DIL40
pins: 1 T0, 2 XTAL1, 3 XTAL2, 4 RESET, 5 SS, 6 CS, 7 EA, 8 RD, 9 A0, 10 WR, 11 SYNC (out), 12 DB0, 13 DB1, 14 DB2, 15 DB3, 16 DB4, 17 DB5, 18 DB6, 19 DB7, 20 VSS (power), 21 P20, 22 P21, 23 P22, 24 P23, 25 PROG, 26 VDD (power), 27 P10, 28 P11, 29 P12, 30 P13, 31 P14, 32 P15, 33 P16, 34 P17, 35 P24/OBF, 36 P25/!IBF, 37 P26/!DRQ, 38 P27/!DAK, 39 T1, 40 VCC (power)

## UPI-8742AH
designator IC?, comment MICROCOMPUTER/PERIPHERAL DEVICE
OC_FARNELL: unknown; OC_NEWARK: unknown
footprint DIL40
pins: 1 T0, 2 XTAL1, 3 XTAL2, 4 RESET, 5 SS, 6 CS, 7 EA, 8 RD, 9 A0, 10 WR, 11 SYNC (out), 12 DB0, 13 DB1, 14 DB2, 15 DB3, 16 DB4, 17 DB5, 18 DB6, 19 DB7, 20 VSS (power), 21 P20, 22 P21, 23 P22, 24 P23, 25 PROG, 26 VDD (power), 27 P10, 28 P11, 29 P12, 30 P13, 31 P14, 32 P15, 33 P16, 34 P17, 35 P24/OBF, 36 P25/!IBF, 37 P26/!DRQ, 38 P27/!DAK, 39 T1, 40 VCC (power)